# EAGLE library part M06-SNAP (library comma.ai)
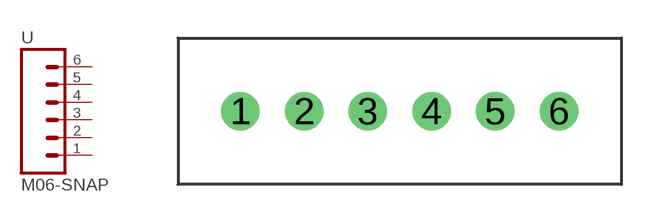
[diagram p13: symbol with the pads of M06-SNAP; footprint M06-SNAP]

Designator prefix -

## M06-SNAP  [M06-SNAP]
1  1  pas
2  2  pas
3  3  pas
4  4  pas
5  5  pas
6  6  pas

## Footprint M06-SNAP (pad centres in mm)
drill 1: 1 0,0; 2 2.5,0; 3 5,0; 4 7.5,0; 5 10,0; 6 12.5,0